# Altium schematic symbol library LMH6521.SchLib: 2 symbols
Pins are listed as number, name and electrical type; pins without a type are passive.

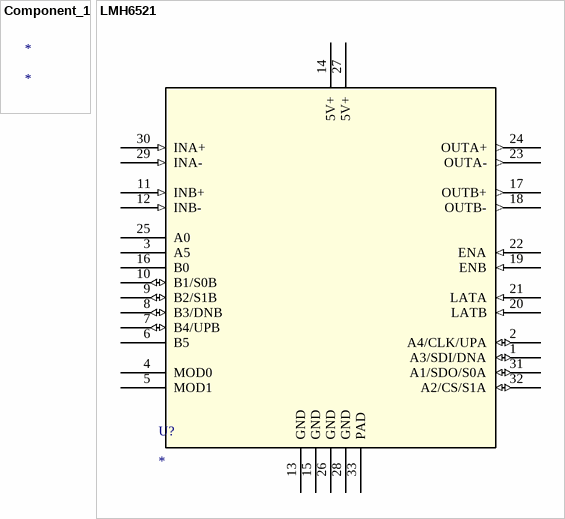
[diagram p0: symbols Component_1 to LMH6521]

## Component_1
designator *

## LMH6521
designator U?
Manufacturer: Texas Instruments; Manufacturer_Part_Number: lmh6521_rtv_32; basePN: LMH6521; NSC_PackageReference: SQA32A; DatasheetURL: http://www.ti.com/lit/ds/symlink/lmh6521.pdf; Vendor: Texas Instruments; Value: Value; Type: Type; RefDes: RefDes
pins: 1 A3/SDI/DNA (io), 2 A4/CLK/UPA (io), 3 A5, 4 MOD0, 5 MOD1, 6 B5, 7 B4/UPB (io), 8 B3/DNB (io), 9 B2/S1B (io), 10 B1/S0B (io), 11 INB+ (in), 12 INB- (in), 13 GND (power), 14 5V+ (power), 15 GND (power), 16 B0, 17 OUTB+ (out), 18 OUTB- (out), 19 ENB (in), 20 LATB (in), 21 LATA (in), 22 ENA (in), 23 OUTA- (out), 24 OUTA+ (out), 25 A0, 26 GND (power), 27 5V+ (power), 28 GND (power), 29 INA- (in), 30 INA+ (in), 31 A1/SDO/S0A (io), 32 A2/CS/S1A (io), 33 PAD (power)